# Altium footprint library LPON_CAP.PcbLib: 108 footprints (part 7 of 7)
Each footprint in its own frame and in the unit in brackets; x right, y up, seen from the top. Pads: shape width x height; smd on the part's side, far side on the other; paste and mask are expansions set on the pad; w line width, h text height; cw(c..) or ccw(c..) is an arc to the next point about the centre after c.
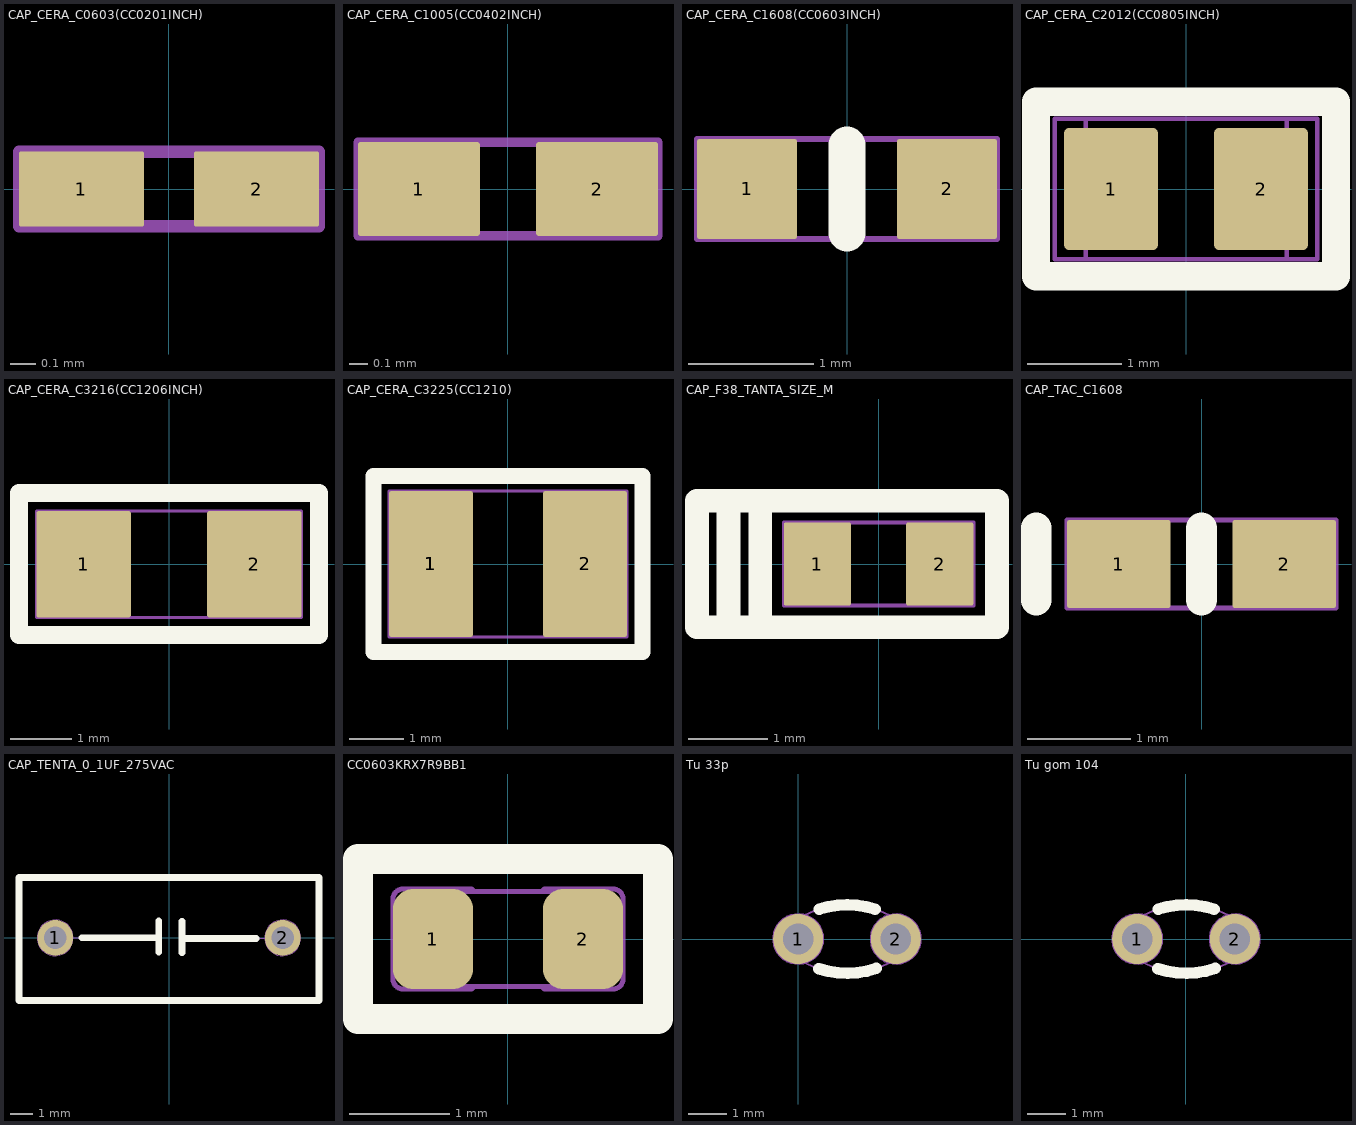
[diagram p6: the footprints below, top view; thin cyan lines are the x and y axes]

## CAP_CERA_C0603(CC0201INCH) [mm] "Ceramic Chip Capacitor, Body 06x03mm, C0603 (CC0201)"
pads (2):
  rrect5% 0.5x0.3 smd mask+0.05: 1(-0.35,0) 2(0.35,0)
Mechanical 2:
  lines w0.05: -0.1,-0.15 -0.6,-0.15 -0.6,0.15 -0.1,0.15 ; 0.1,-0.15 0.6,-0.15 0.6,0.15 0.1,0.15 ; -0.3,-0.15 -0.3,0.15 0.3,0.15 0.3,-0.15 -0.3,-0.15
3D body "User Library-Chip Cap_MLCC_0201 (0603).step": height 0.27, standoff -0.03, extent -0.3,-0.15 0.3,0.15

## CAP_CERA_C1005(CC0402INCH) [mm] "Ceramic Chip Capacitor, Body 10x05mm, C1005 (CC0402)"
pads (2):
  rrect5% 0.65x0.5 smd mask+0.1: 1(-0.475,0) 2(0.475,0)
Mechanical 2:
  lines w0.05: -0.15,-0.25 -0.8,-0.25 -0.8,0.25 -0.15,0.25 ; 0.15,-0.25 0.8,-0.25 0.8,0.25 0.15,0.25 ; -0.5,-0.25 -0.5,0.25 0.5,0.25 0.5,-0.25 -0.5,-0.25
3D body "User Library-CAPC1005X06.step": height 0.6, standoff 0, extent -0.5,-0.25 0.5,0.25

## CAP_CERA_C1608(CC0603INCH) [mm] "Chip Capacitor, 2-Leads, Body 2.0x1.3mm, IPC Medium Density"
height 1.45
pads (2):
  rrect5% 0.8x0.8 smd mask+0.1: 1(-0.8,0) 2(0.8,0)
Top Overlay:
  lines w0.3: 0,-0.35 0,0.35
Mechanical 2:
  lines w0.05: -0.3,-0.4 -1.2,-0.4 -1.2,0.4 -0.3,0.4 ; 0.3,-0.4 1.2,-0.4 1.2,0.4 0.3,0.4 ; -0.8,-0.4 -0.8,0.4 0.8,0.4 0.8,-0.4 -0.8,-0.4
3D body "Cap 0603.STEP": height 0.6, standoff 0, extent -0.8,-0.4 0.8,0.4

## CAP_CERA_C2012(CC0805INCH) [mm] "Chip Capacitor, 2-Leads, Body 2.0x1.3mm, IPC Medium Density"
height 1.45
pads (2):
  rrect10% 1x1.3 smd: 1(-0.8,0) 2(0.8,0)
Top Overlay:
  lines w0.3: -1.6,-0.93 -1.6,0.93 1.6,0.93 1.6,-0.93 -1.6,-0.93
Mechanical 2:
  lines w0.05: -1.07,-0.74 -1.07,0.75 ; 1.075,-0.74 1.075,0.75 ; -1.4,-0.75 -1.4,0.75 1.4,0.75 1.4,-0.75 -1.4,-0.75
3D body "User Library-cap_0805_lowprofile.step": height 0.95, standoff 0, extent -1,-0.6 1,0.6

## CAP_CERA_C3216(CC1206INCH) [mm] "Ceramic Chip Capacitor, Body 32x16mm, C3216 (CC1206)"
height 1.35
pads (2):
  rrect5% 1.55x1.75 smd mask+0.1: 1(-1.4,0) 2(1.4,0)
Top Overlay:
  lines w0.3: -2.46,-1.16 2.46,-1.16 2.46,1.17 -2.46,1.17 -2.46,-1.16
Mechanical 2:
  lines w0.05: -0.625,-0.875 -2.175,-0.875 -2.175,0.875 -0.625,0.875 ; 0.625,-0.875 2.175,-0.875 2.175,0.875 0.625,0.875 ; -1.675,-0.875 -1.675,0.875 1.675,0.875 1.675,-0.875 -1.675,-0.875
3D body "User Library-CAPC3216X10.step": height 1, standoff 0, extent -1.6,-0.8 1.6,0.8

## CAP_CERA_C3225(CC1210) [mm] "CC1210KKX7R6  BB476"
height 0.92
pads (3):
  rrect5% 1.55x2.7 smd mask+0.1: 1(-1.425,0) 1(-1.425,0) 2(1.425,0)
Top Overlay:
  lines w0.3: -2.49,-1.63 2.49,-1.63 2.49,1.63 -2.49,1.63 -2.49,-1.63
Mechanical 2:
  lines w0.05: -0.65,-1.35 -2.2,-1.35 -2.2,1.35 -0.65,1.35 ; 0.65,-1.35 2.2,-1.35 2.2,1.35 0.65,1.35 ; -1.7,-1.35 -1.7,1.35 1.7,1.35 1.7,-1.35 -1.7,-1.35
3D body "User Library-cap_1210_lowprofile.step": height 1.3, standoff 0, extent -1.6,-1.25 1.6,1.25

## CAP_F38_TANTA_SIZE_M [mm] "CAP TANTALUM F38 SIZE M 1.8x1.05"
height 0.9
pads (2):
  rrect5% 0.85x1.05 smd mask+0.1: 1(-0.775,0) 2(0.775,0)
Top Overlay:
  lines w0.3: -1.9,-0.8 -1.9,0.8 ; -1.9,-0.8 -1.5,-0.8 ; -1.9,-0.8 -2.3,-0.8 -2.3,0.8 -1.9,0.8 ; -1.9,0.8 -1.5,0.8 ; -1.5,-0.8 -1.5,0.8 ; -1.5,-0.8 1.5,-0.8 1.5,0.8 -1.5,0.8
Mechanical 1:
  circle w0.05: c-0.6,0 r0.2
  lines w0.05: -0.8,0 -0.4,0 ; -0.6,-0.2 -0.6,0.2 ; -0.35,-0.525 -1.2,-0.525 -1.2,0.525 -0.35,0.525 ; 0.35,-0.525 1.2,-0.525 1.2,0.525 0.35,0.525 ; -0.9,-0.525 0.9,-0.525 0.9,0.525 -0.9,0.525 -0.9,-0.525
  text "C?" at 0,0 h0.8

## CAP_TAC_C1608 [mm] "TACmicrochip Tantalum capacitor 2-Leads, Body 1.6x0.85mm"
height 0.85
pads (2):
  rrect5% 1x0.85 smd mask+0.1: 1(-0.8,0) 2(0.8,0)
Top Overlay:
  lines w0.3: -1.6,-0.35 -1.6,0.35 ; 0,-0.35 0,0.35
Mechanical 1:
  lines w0.05: -0.7,-0.425 -0.7,0.425 ; -0.6,-0.425 -0.6,0.425 ; -0.5,-0.425 -0.5,0.425 ; -0.4,-0.425 -0.4,0.425 ; -0.3,-0.425 -1.3,-0.425 -1.3,0.425 -0.3,0.425 ; 0.3,-0.425 1.3,-0.425 1.3,0.425 0.3,0.425 ; -0.8,-0.425 0.8,-0.425 0.8,0.425 -0.8,0.425 -0.8,-0.425
  text "C?" at 0,0 h0.5
3D body "Cap 0603.STEP": height 0.6, standoff 0, extent -0.8,-0.4 0.8,0.4

## CAP_TENTA_0_1UF_275VAC [mm] "Film Capacitor"
pads (2):
  round 1.6 hole 1: 1(-5.08,0) 2(5.08,0)
Top Overlay:
  lines w0.3: -3.9,0 -0.457,0 ; -0.457,-0.635 -0.457,0.762 ; 0.584,-0.66 0.584,0.737 ; 0.584,-0.025 3.9,-0.025 ; -6.7,-2.8 6.7,-2.8 6.7,2.7 -6.7,2.7 -6.7,-2.8
Mechanical 1:
  circle w0.05: c-5.08,0 r0.8
  circle w0.05: c5.08,0 r0.8
  lines w0.05: -4.28,0 -0.457,0 ; -0.457,-0.635 -0.457,0.762 ; 0.584,-0.66 0.584,0.737 ; 0.584,-0.025 4.28,-0.025 ; -6.7,-2.8 6.7,-2.8 6.7,2.7 -6.7,2.7 -6.7,-2.8
3D body "User Library-Hua Jung MKP-104K0305AB1101-P.step": height 12, standoff -2.81, extent -6.5,-2.54 6.5,2.461

## CC0603KRX7R9BB1 [mm] "CC0603"
height 0.6
pads (2):
  rrect50% 0.8x1 smd: 1(-0.75,0) 2(0.75,0)
Top Overlay:
  lines w0.3: -1.5,-0.8 -1.5,0.8 1.5,0.8 1.5,-0.8 -1.5,-0.8
Mechanical 1:
  lines w0.05: -0.35,-0.475 cw(c-0.375,-0.475) -0.375,-0.5 -1.05,-0.5 cw(c-1.05,-0.4) -1.15,-0.4 -1.15,0.4 cw(c-1.05,0.4) -1.05,0.5 -0.375,0.5 cw(c-0.375,0.475) -0.35,0.475 ; 0.35,-0.475 ccw(c0.375,-0.475) 0.375,-0.5 1.05,-0.5 ccw(c1.05,-0.4) 1.15,-0.4 1.15,0.4 ccw(c1.05,0.4) 1.05,0.5 0.375,0.5 ccw(c0.375,0.475) 0.35,0.475 ; -0.875,-0.475 0.875,-0.475 0.875,0.475 -0.875,0.475 -0.875,-0.475
3D body: height 0.92, standoff 0, extent -0.875,-0.475 0.875,0.475

## Tu 33p [mm] "Capacitor, Radial, Tantalum, Non-Polarised; Body 3.05 x 1.78 x 3.43 mm (WxTxH max); Pin Spacing 2.54 mm (typ)"
height 3.43
pads (2):
  round 1.3 hole 0.8: 1(0,0) 2(2.54,0)
Top Overlay:
  lines w0.2: 1.217,-0.89 1.311,-0.89 ; 1.229,0.89 1.323,0.89
  lines w0.3: 0.538,-0.776 ccw(c1.27,1.507) 2.029,-0.767 ; 0.547,0.779 cw(c1.27,-1.507) 1.999,0.777
Mechanical 1:
  circle w0.05: c2.54,0 r0.65
  circle w0.05: c0,0 r0.65
  lines w0.05: 0.18,0.628 cw(c1.27,-1.507) 2.364,0.626 ; 0.184,-0.63 ccw(c1.27,1.507) 2.367,-0.625
3D body "Ceramic Cap 100n.STEP": height 6.42, standoff -1.5, extent -1.647,-0.848 4.191,0.848

## Tu gom 104 [mm] "Capacitor, Radial, Tantalum, Non-Polarised; Body 3.05 x 1.78 x 3.43 mm (WxTxH max); Pin Spacing 2.54 mm (typ)"
height 3.43
pads (2):
  round 1.3 hole 0.8: 1(-1.27,0) 2(1.27,0)
Top Overlay:
  lines w0.2: -0.053,-0.89 0.041,-0.89 ; -0.041,0.89 0.053,0.89
  lines w0.3: -0.732,-0.776 ccw(c0,1.507) 0.759,-0.767 ; -0.723,0.779 cw(c0,-1.507) 0.729,0.777
Mechanical 1:
  circle w0.05: c1.27,0 r0.65
  circle w0.05: c-1.27,0 r0.65
  lines w0.05: -1.09,0.628 cw(c0,-1.507) 1.094,0.626 ; -1.086,-0.63 ccw(c0,1.507) 1.097,-0.625
3D body "Ceramic Cap 100n.STEP": height 6.42, standoff -1.5, extent -2.917,-0.848 2.921,0.848